# Altium schematic symbol library myComponents.SchLib: 51 symbols
Pins are listed as number, name and electrical type; pins without a type are passive.

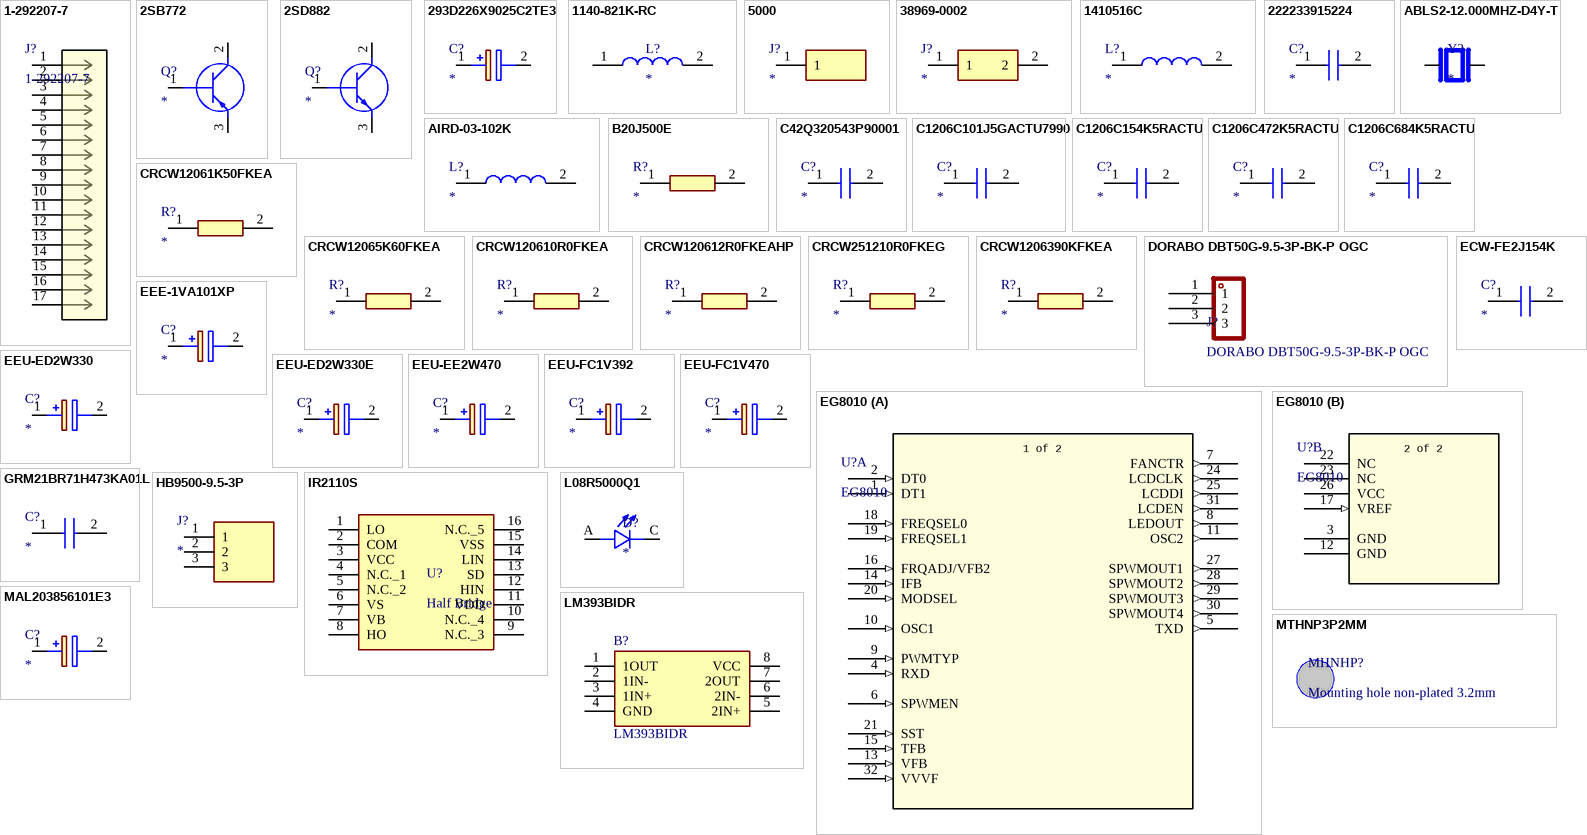
[diagram p0: symbols 1-292207-7 to MTHNP3P2MM]

## 1-292207-7
designator J?
MINI CT SGL DIP V 17P NAT; Manufacturer_Name: TE Connectivity; Copyright: Copyright (C) 2026 Ultra Librarian. All rights reserved.; Manufacturer_Part_Number: 1-292207-7; Datasheet: https://www.te.com/commerce/DocumentDelivery/DDEController?Action=srchrtrv&DocNm=108-60018-1&DocType=Specification+Or+Standard&DocLang=Japanese&PartCntxt=928037-2&DocFormat=pdf; RefDes: RefDes; Type: Type
pins: 1, 2, 3, 4, 5, 6, 7, 8, 9, 10, 11, 12, 13, 14, 15, 16, 17

## 2SB772
designator Q?
Transistor BJT PNP; Manufacturer_Name: STMicroelectronics; Manufacturer_Part_Number: 2SB772; Datasheet Link: https://datasheet.datasheetarchive.com/originals/distributors/Datasheets-45/DSA-5248.pdf; Height: 2.9mm; Mouser Part Number: 511-2SB772; Mouser Price/Stock: https://www.mouser.co.uk/ProductDetail/STMicroelectronics/2SB772?qs=7kmgJcyZw9d2sYv58XGrqg%3D%3D
footprint TO229P290X760X1320-3P
pins: 1 B, 2 C, 3 E

## 2SD882
designator Q?
Transistor BJT NPN; Manufacturer_Name: STMicroelectronics; Manufacturer_Part_Number: 2SD882; Datasheet Link: https://www.st.com/resource/en/datasheet/2sd882.pdf; Height: 2.9mm; Mouser Part Number: 511-2SD882; Mouser Price/Stock: https://www.mouser.co.uk/ProductDetail/STMicroelectronics/2SD882?qs=48xh8PjiJp54c%2F0PmkMjUQ%3D%3D; Arrow Part Number: 2SD882; Arrow Price/Stock: https://www.arrow.com/en/products/2sd882/stmicroelectronics?utm_currency=USD&region=nac
footprint BD235
pins: 1 B, 2 C, 3 E

## 293D226X9025C2TE3
designator C?
Capacitor Polarised; Manufacturer_Name: Vishay; Manufacturer_Part_Number: 293D226X9025C2TE3; Datasheet Link: http://www.vishay.com/docs/40002/293d.pdf; Height: 2.8mm; Mouser Part Number: 74-293D226X9025C2TE3; Mouser Price/Stock: https://www.mouser.co.uk/ProductDetail/Vishay-Sprague/293D226X9025C2TE3?qs=dG4nGvFc7P9WRSkI1DdLhQ%3D%3D; Arrow Part Number: 293D226X9025C2TE3; Arrow Price/Stock: https://www.arrow.com/en/products/293d226x9025c2te3/vishay?utm_currency=USD&region=nac
footprint CAPPM6032X280N
pins: 1 +, 2 -

## 1140-821K-RC
designator L?
Ind High Current RF Choke Bobbin Core 820uH 10% 1KHz Ferrite 7.2A RDL; Manufacturer: Bourns; Manufacturer Part Number: 1140-821K-RC; DC Resistance (DCR): 154mΩ; Value: 820µH; Lead/Base Style: Radial; Lead Diameter: 1.016mm; Lead Length: 12.7mm; Max Current Rating: 4.2A; Number of Circuits: 1; Shielding: Unshielded; Supplier: DigiKey; Supplier Part Number: M8381-ND; RoHS: Compliant; Category: Fixed Inductors; Stock: 126; Pricing: 1=14.05, 10=11.554, 25=10.6904, 70=9.79814, 140=9.24071, 280=8.71596, 560=8.4625 (USD); Body Material: Ferrite; Case/Package: Radial; Composition: Wirewound; Contact Plating: Tin; Core Material: Ferrite; DC Current: 7.2A; Diameter: 38.1mm; Height - Seated (Max): 26.162mm; Inductance Tolerance: 10%; Lead Free: Lead Free; Lead Pitch: 29.21mm; Length: 26.162mm; Lifecycle Status: Production; Max DC Current: 7.2A; Max Operating Temperature: 105°C; Military Standard: Not; Min Operating Temperature: -55°C; Mounting Technology: Through Hole; Pins: 2; Number of Terminals: 2; Packaging: Bulk; REACH SVHC: Yes; RMS Current (Irms): 7.2A; Saturation Current: 7.2A; Schedule B: 8504500000; Termination: Radial; Test Frequency: 1kHz; Tolerance: 10%; ComponentLink1URL: https://datasheet.octopart.com:443/1140-821K-RC-Bourns-datasheet-154729527.pdf?src-supplier=IHS; ComponentLink1Description: https://datasheet.octopart.com:443/1140-821K-RC-Bourns-datasheet-154729527.pdf?src-supplier=IHS; ComponentLink2URL: https://datasheet.octopart.com:443/1140-821K-RC-Bourns-datasheet-11630372.pdf?src-supplier=Newark; ComponentLink2Description: https://datasheet.octopart.com:443/1140-821K-RC-Bourns-datasheet-11630372.pdf?src-supplier=Newark; ComponentLink3URL: https://datasheet.octopart.com:443/1140-821K-RC-Bourns-datasheet-48858792.pdf?src-supplier=Newark; ComponentLink3Description: https://datasheet.octopart.com:443/1140-821K-RC-Bourns-datasheet-48858792.pdf?src-supplier=Newark; ComponentLink4URL: https://datasheet.octopart.com:443/1140-821K-RC-Bourns-datasheet-41175375.pdf?src-supplier=Newark; ComponentLink4Description: https://datasheet.octopart.com:443/1140-821K-RC-Bourns-datasheet-41175375.pdf?src-supplier=Newark; ComponentLink5URL: https://datasheet.octopart.com:443/1140-821K-RC-Bourns-datasheet-192317154.pdf?src-supplier=HQonline; ComponentLink5Description: https://datasheet.octopart.com:443/1140-821K-RC-Bourns-datasheet-192317154.pdf?src-supplier=HQonline; ComponentLink6URL: https://datasheet.octopart.com:443/1140-821K-RC-Bourns-datasheet-140.pdf?src-supplier=DigiKey; ComponentLink6Description: https://datasheet.octopart.com:443/1140-821K-RC-Bourns-datasheet-140.pdf?src-supplier=DigiKey; ComponentLink7URL: http://sigma.octopart.com:80/conflict_mineral_statement/Bourns-company-36.pdf?src-supplier=Compliance+Statements; ComponentLink7Description: http://sigma.octopart.com:80/conflict_mineral_statement/Bourns-company-36.pdf?src-supplier=Compliance+Statements
footprint 1140-821K-RC (4.2A 820uH ±10% 154mΩ 7.2A Through Hole,D38.1xL26.2mm Fixed Inductors RoHS)
pins: 1, 2

## 5000
designator J?
Connector; Manufacturer_Name: Keystone Electronics; Manufacturer_Part_Number: 5000; Datasheet Link: http://www.keyelco.com/product-pdf.cfm?p=1309; Mouser Part Number: 534-5000; Mouser Price/Stock: https://www.mouser.co.uk/ProductDetail/Keystone-Electronics/5000?qs=q0tsjPZWdm%252B9SiiTAbEwUw%3D%3D; Arrow Part Number: 5000; Arrow Price/Stock: https://www.arrow.com/en/products/5000/keystone-electronics.html?utm_currency=USD&region=europe
footprint 5000
pins: 1

## 38969-0002
designator J?
Connector; Manufacturer_Name: Molex; Manufacturer_Part_Number: 38969-0002; Datasheet Link: https://www.mouser.com/datasheet/2/276/0389690002_TERMINAL_BLOCKS-138581.pdf; Height: 21.9mm; Mouser Part Number: 538-38969-0002; Mouser Price/Stock: https://www.mouser.co.uk/ProductDetail/Molex/38969-0002?qs=%2Fs3Y63xoe9mbpbSgf7b48A%3D%3D
footprint 389690002
pins: 1, 2

## 1410516C
designator L?
Inductor; Manufacturer_Name: Murata Electronics; Manufacturer_Part_Number: 1410516C; Datasheet Link: https://search.murata.co.jp/Ceramy/image/img/P02A/kmp_1400.pdf; Height: 23.3mm; Mouser Part Number: 580-1410516C; Mouser Price/Stock: https://www.mouser.co.uk/ProductDetail/Murata-Power-Solutions/1410516C?qs=9r1NMR%2FmzSAtIf%252B56xzFaQ%3D%3D; Arrow Part Number: 1410516C; Arrow Price/Stock: https://www.arrow.com/en/products/1410516c/murata-power-solutions
footprint 1410516C
pins: 1, 2

## 222233915224
designator C?
Capacitor; Manufacturer_Name: Vishay; Manufacturer_Part_Number: 222233915224; Datasheet Link: https://www.vishay.com/docs/28138/mkp339x2.pdf; Height: 15.5mm; Mouser Part Number: N/A; Mouser Price/Stock: https://www.mouser.co.uk/ProductDetail/Vishay-BC-Components/222233915224?qs=vkgpMzy1B9Fp9IMdtZOLlw%3D%3D
footprint 222233915224
pins: 1, 2

## ABLS2-12.000MHZ-D4Y-T
designator Y?
HC/49US (AT49) LOW PROFILE SURFACE MOUNT MICROPROCESSOR CRYSTAL; MP: ABLS2-12.000MHZ-D4Y-T; MF: Abracon; Purchase-URL: https://pricing.snapeda.com/search/part/ABLS2-12.000MHZ-D4Y-T/?ref=eda; Package: HC49/US Abracon; Value: *; Price: None; Availability: In Stock; SnapEDA_Link: https://www.snapeda.com/parts/ABLS2-12.000MHZ-D4Y-T/Abracon+LLC/view-part/?ref=snap; Check_prices: https://www.snapeda.com/parts/ABLS2-12.000MHZ-D4Y-T/Abracon+LLC/view-part/?ref=eda
footprint XTAL_ABLS2-12.000MHZ-D4Y-T
pins: 1, 2

## AIRD-03-102K
designator L?
Inductor; Manufacturer_Name: ABRACON; Manufacturer_Part_Number: AIRD-03-102K; Datasheet Link: https://abracon.com/Magnetics/radial/AIRD03.pdf; Height: 21mm; Mouser Part Number: 815-AIRD-03-102K; Mouser Price/Stock: https://www.mouser.co.uk/ProductDetail/ABRACON/AIRD-03-102K?qs=qV1JnYL3zOzexeOxuHVt9w%3D%3D; Arrow Part Number: AIRD-03-102K; Arrow Price/Stock: https://www.arrow.com/en/products/aird-03-102k/abracon
footprint AIRD-03
pins: 1, 2

## B20J500E
designator R?
Resistor; Manufacturer_Name: Ohmite; Manufacturer_Part_Number: B20J500E; Datasheet Link: http://www.ohmite.com/assets/docs/res_200.pdf?r=false; Height: 11.11mm; Mouser Part Number: 588-B20J500E; Mouser Price/Stock: https://www.mouser.co.uk/ProductDetail/Ohmite/B20J500E/?qs=iXcfd2MmwnuWXsM68hCYqw%3D%3D
footprint B20J500E
pins: 1, 2

## C42Q320543P90001
designator C?
2uF ±10% 275V 310V Safety Capacitor X2 Through Hole,P=22.5mm; Manufacturer_Name: WALSON; Manufacturer_Part_Number: C42Q320543P90001; Datasheet Link: -; Height: 20m; LCSC part no: C46638887; Mouser Price/Stock: https://www.mouser.co.uk/ProductDetail/Vishay-BC-Components/222233915224?qs=vkgpMzy1B9Fp9IMdtZOLlw%3D%3D
footprint C42Q320543P90001
pins: 1, 2

## C1206C101J5GACTU7990
designator C?
Capacitor; Manufacturer_Name: Yageo Group; Manufacturer_Part_Number: C1206C101J5GACTU7990; Datasheet Link: https://www.kemet.com/specsheet/C1206C101J5GACTU; Height: 0.88mm; Arrow Part Number: C1206C101J5GACTU7990; Arrow Price/Stock: https://www.arrow.com/en/products/c1206c101j5gactu7990/kemet-corporation
footprint CAPC3216X88N
pins: 1, 2

## C1206C154K5RACTU
designator C?
Capacitor; Manufacturer_Name: Yageo Group; Manufacturer_Part_Number: C1206C154K5RACTU; Datasheet Link: https://www.yageogroup.com/content/datasheet/asset/file/KEM_C1002_X7R_SMD; Mouser Part Number: 80-C1206C154K5R; Mouser Price/Stock: https://www.mouser.com/Search/Refine.aspx?Keyword=80-C1206C154K5R
footprint C1206
pins: 1, 2

## C1206C472K5RACTU
designator C?
Capacitor; Manufacturer_Name: Yageo Group; Manufacturer_Part_Number: C1206C472K5RACTU; Datasheet Link: https://www.yageogroup.com/content/datasheet/asset/file/KEM_C1002_X7R_SMD; Mouser Part Number: 80-C1206C472K5R; Mouser Price/Stock: https://www.mouser.co.uk/ProductDetail/KEMET/C1206C472K5RACTU?qs=mFbQsTr%2Fh7%2F0OG5diKY6aA%3D%3D; Arrow Part Number: C1206C472K5RACTU; Arrow Price/Stock: https://www.arrow.com/en/products/c1206c472k5ractu/kemet-corporation?utm_currency=USD&region=nac
footprint C1206
pins: 1, 2

## C1206C684K5RACTU
designator C?
Capacitor; Manufacturer_Name: Yageo Group; Manufacturer_Part_Number: C1206C684K5RACTU; Datasheet Link: https://www.yageogroup.com/content/datasheet/asset/file/KEM_C1002_X7R_SMD; Mouser Part Number: 80-C1206C684K5R; Mouser Price/Stock: https://www.mouser.co.uk/ProductDetail/KEMET/C1206C684K5RACTU?qs=KSy8a%252BTKc2qru3MXWlYRyw%3D%3D; Arrow Part Number: C1206C684K5RACTU; Arrow Price/Stock: https://www.arrow.com/en/products/c1206c684k5ractu/kemet-corporation
footprint C1206
pins: 1, 2

## CRCW12061K50FKEA
designator R?
Resistor; Manufacturer_Name: Vishay; Manufacturer_Part_Number: CRCW12061K50FKEA; Datasheet Link: http://www.vishay.com/docs/20035/dcrcwe3.pdf; Height: 0.6mm; Mouser Part Number: 71-CRCW1206-1.5K-E3; Mouser Price/Stock: https://www.mouser.co.uk/ProductDetail/Vishay-Dale/CRCW12061K50FKEA?qs=3XLFQ9LoC1zlBocU3%2FWpng%3D%3D; Arrow Part Number: CRCW12061K50FKEA; Arrow Price/Stock: https://www.arrow.com/en/products/crcw12061k50fkea/vishay?region=nac
footprint RESC3216X60N
pins: 1, 2

## CRCW12065K60FKEA
designator R?
Resistor; Manufacturer_Name: Vishay; Manufacturer_Part_Number: CRCW12065K60FKEA; Datasheet Link: http://www.vishay.com/docs/20035/dcrcwe3.pdf; Height: 0.6mm; Mouser Part Number: 71-CRCW1206-5.6K-E3; Mouser Price/Stock: https://www.mouser.co.uk/ProductDetail/Vishay-Dale/CRCW12065K60FKEA?qs=DAOw7tDt2pG1e3ABjnqiFQ%3D%3D; Arrow Part Number: CRCW12065K60FKEA; Arrow Price/Stock: https://www.arrow.com/en/products/crcw12065k60fkea/vishay?utm_currency=USD&region=europe
footprint RESC3216X60N
pins: 1, 2

## CRCW120610R0FKEA
designator R?
Resistor; Manufacturer_Name: Vishay; Manufacturer_Part_Number: CRCW120610R0FKEA; Datasheet Link: http://www.vishay.com/docs/20035/dcrcwe3.pdf; Height: 0.6mm; Mouser Part Number: 71-CRCW1206-10-E3; Mouser Price/Stock: https://www.mouser.co.uk/ProductDetail/Vishay-Dale/CRCW120610R0FKEA?qs=ODaLBy2SlZEomzAFMQRuoA%3D%3D; Arrow Part Number: CRCW120610R0FKEA; Arrow Price/Stock: https://www.arrow.com/en/products/crcw120610r0fkea/vishay?utm_currency=USD&region=nac
footprint RESC3216X60N
pins: 1, 2

## CRCW120612R0FKEAHP
designator R?
Resistor; Manufacturer_Name: Vishay; Manufacturer_Part_Number: CRCW120612R0FKEAHP; Datasheet Link: http://www.vishay.com/docs/20035/dcrcwe3.pdf; Height: 0.65mm; Mouser Part Number: 71-CRCW120612R0FKEAH; Mouser Price/Stock: https://www.mouser.co.uk/ProductDetail/Vishay-Dale/CRCW120612R0FKEAHP?qs=40TFAHZMFvfoWh3r5QltXA%3D%3D; Arrow Part Number: CRCW120612R0FKEAHP; Arrow Price/Stock: https://www.arrow.com/en/products/crcw120612r0fkeahp/vishay?region=nac
footprint RESC3116X65N
pins: 1, 2

## CRCW251210R0FKEG
designator R?
Resistor; Manufacturer_Name: Vishay; Manufacturer_Part_Number: CRCW251210R0FKEG; Datasheet Link: http://www.vishay.com/docs/20035/dcrcwe3.pdf; Height: 0.7mm; Mouser Part Number: 71-CRCW2512-10-E3; Mouser Price/Stock: https://www.mouser.co.uk/ProductDetail/Vishay-Dale/CRCW251210R0FKEG?qs=VTHkDwr%2FZpkb635FFTvRPg%3D%3D; Arrow Part Number: CRCW251210R0FKEG; Arrow Price/Stock: https://www.arrow.com/en/products/crcw251210r0fkeg/vishay?utm_currency=USD&region=nac
footprint RESC6332X70N
pins: 1, 2

## CRCW1206390KFKEA
designator R?
Resistor; Manufacturer_Name: Vishay; Manufacturer_Part_Number: CRCW1206390KFKEA; Datasheet Link: http://www.vishay.com/docs/20035/dcrcwe3.pdf; Height: 0.6mm; Mouser Part Number: 71-CRCW1206-390K-E3; Mouser Price/Stock: https://www.mouser.co.uk/ProductDetail/Vishay-Dale/CRCW1206390KFKEA?qs=v0cjL%2FPx3nzEevIf9clm%2Fw%3D%3D
footprint RESC3216X60N
pins: 1, 2

## DORABO DBT50G-9.5-3P-BK-P OGC
designator J?
3 Position Barrier Block Connector 12~22 AWG 750V 32A Through Hole,P=9.5mm; Mfr. Part #: DBT50G-9.5-3P-BK-P OGC; LCSC Part #: C395959
footprint DORABO DBT50G-9.5-3P-BK-P OGC
pins: 1, 2, 3

## ECW-FE2J154K
designator C?
Capacitor; Manufacturer_Name: Panasonic; Manufacturer_Part_Number: ECW-FE2J154K; Datasheet Link: https://www.mouser.ch/datasheet/2/315/panasonic_06262019_Capacitor_Film_Leaded_(ECW-F(E)-1609057.pdf; Height: 12mm
footprint ECWFE2J154K
pins: 1, 2

## EEE-1VA101XP
designator C?
Capacitor Polarised; Manufacturer_Name: Panasonic; Manufacturer_Part_Number: EEE-1VA101XP; Datasheet Link: http://industrial.panasonic.com/cdbs/www-data/pdf/RDE0000/ABA0000C1145.pdf; Height: 7.8mm; Mouser Part Number: 667-EEE-1VA101XP; Mouser Price/Stock: https://www.mouser.co.uk/ProductDetail/Panasonic/EEE-1VA101XP?qs=wEytwf7f49FM0EqQXrBRGQ%3D%3D; Arrow Part Number: EEE-1VA101XP; Arrow Price/Stock: https://www.arrow.com/en/products/eee-1va101xp/panasonic?region=europe
footprint EEE0JA331XP
pins: 1 +, 2 -

## EEU-ED2W330
designator C?
Capacitor Polarised; Manufacturer_Name: Panasonic; Manufacturer_Part_Number: EEU-ED2W330; Datasheet Link: http://industrial.panasonic.com/cdbs/www-data/pdf/RDF0000/ABA0000C1258.pdf; Height: 33.5mm; Mouser Part Number: 667-EEU-ED2W330; Mouser Price/Stock: https://www.mouser.co.uk/ProductDetail/Panasonic/EEU-ED2W330?qs=MtOUKumLmnY5%2Fm%252B1L0U2bw%3D%3D; Arrow Part Number: EEU-ED2W330; Arrow Price/Stock: https://www.arrow.com/en/products/eeu-ed2w330/panasonic
footprint CAPPRD750W85D1600H3350
pins: 1 +, 2 -

## EEU-ED2W330E
designator C?
Capacitor Polarised; Manufacturer_Name: Panasonic; Manufacturer_Part_Number: EEU-ED2W330E; Datasheet Link: http://industrial.panasonic.com/cdbs/www-data/pdf/RDF0000/ABA0000C1258.pdf; Height: 33.5mm
footprint CAPPRD750W85D1600H3350
pins: 1 +, 2 -

## EEU-EE2W470
designator C?
Capacitor Polarised; Manufacturer_Name: Panasonic; Manufacturer_Part_Number: EEU-EE2W470; Datasheet Link: http://industrial.panasonic.com/cdbs/www-data/pdf/RDF0000/ABA0000C1026.pdf; Height: 33.5mm; Mouser Part Number: 667-EEU-EE2W470; Mouser Price/Stock: https://www.mouser.co.uk/ProductDetail/Panasonic/EEU-EE2W470?qs=bZLtalHQkT029IEIu1uw8w%3D%3D; Arrow Part Number: EEU-EE2W470; Arrow Price/Stock: https://www.arrow.com/en/products/eeu-ee2w470/panasonic?region=europe
footprint CAPPRD750W85D1600H3350
pins: 1 +, 2 -

## EEU-FC1V392
designator C?
Capacitor Polarised; Manufacturer_Name: Panasonic; Manufacturer_Part_Number: EEU-FC1V392; Datasheet Link: http://industrial.panasonic.com/cdbs/www-data/pdf/RDF0000/ABA0000C1209.pdf; Height: 42mm; Mouser Part Number: 667-EEU-FC1V392; Mouser Price/Stock: https://www.mouser.com/Search/Refine.aspx?Keyword=667-EEU-FC1V392; Arrow Part Number: EEU-FC1V392; Arrow Price/Stock: https://www.arrow.com/en/products/eeu-fc1v392/panasonic
footprint CAPPRD750W85D1800H4200
pins: 1 +, 2 -

## EEU-FC1V470
designator C?
Capacitor Polarised; Manufacturer_Name: Panasonic; Manufacturer_Part_Number: EEU-FC1V470; Datasheet Link: http://industrial.panasonic.com/cdbs/www-data/pdf/RDF0000/ABA0000C1209.pdf; Height: 12.2mm; Mouser Part Number: 667-EEU-FC1V470; Mouser Price/Stock: https://www.mouser.co.uk/ProductDetail/Panasonic/EEU-FC1V470?qs=LcHzz5wiUnXQHudKE6FiUA%3D%3D; Arrow Part Number: EEU-FC1V470; Arrow Price/Stock: https://www.arrow.com/en/products/eeu-fc1v470/panasonic?region=nac
footprint CAPPRD250W55D655H1220
pins: 1 +, 2 -

## EG8010
designator U?
Description; Manufacturer_Name: EG; Copyright: Copyright (C) 2026 Ultra Librarian. All rights reserved.; Manufacturer_Part_Number: EG8010; RefDes: RefDes; Type: Type
footprint EG8010
part A pins: 1 DT1 (in), 2 DT0 (in), 4 RXD (in), 5 TXD (out), 6 SPWMEN (in), 7 FANCTR (out), 8 LEDOUT (out), 9 PWMTYP (in), 10 OSC1 (in), 11 OSC2 (out), 13 VFB (in), 14 IFB (in), 15 TFB (in), 16 FRQADJ/VFB2 (in), 18 FREQSEL0 (in), 19 FREQSEL1 (in), 20 MODSEL (in), 21 SST (in), 24 LCDCLK (out), 25 LCDDI (out), 27 SPWMOUT1 (out), 28 SPWMOUT2 (out), 29 SPWMOUT3 (out), 30 SPWMOUT4 (out), 31 LCDEN (out), 32 VVVF (in)
part B pins: 3 GND (power), 12 GND (power), 17 VREF (in), 22 NC, 23 NC, 26 VCC (power)
part A text: 1 of 2
part B text: 2 of 2

## GRM21BR71H473KA01L
designator C?
Capacitor; Manufacturer_Name: Murata Electronics; Manufacturer_Part_Number: GRM21BR71H473KA01L; Datasheet Link: https://search.murata.co.jp/Ceramy/image/img/A01X/G101/ENG/GRM21BR71H473KA01-01.pdf; Height: 1.45mm; Mouser Part Number: 81-GRM40X473K50L; Mouser Price/Stock: https://www.mouser.co.uk/ProductDetail/Murata-Electronics/GRM21BR71H473KA01L?qs=sMEX%2F0vXHgl0Nq00%252BwNcXQ%3D%3D; Arrow Part Number: GRM21BR71H473KA01L; Arrow Price/Stock: https://www.arrow.com/en/products/grm21br71h473ka01l/murata-manufacturing?region=europe
footprint CAPC2012X145N
pins: 1, 2

## HB9500-9.5-3P
designator J?
Connector; Manufacturer_Name: Ningbo Kangnex; Manufacturer_Part_Number: HB9500-9.5-3P; Datasheet Link: https://datasheet.lcsc.com/lcsc/2303311830_Cixi-Kefa-Elec-HB9500SS-9-5-3P_C707846.pdf; Height: 14.9mm
footprint HB9500953P
pins: 1, 2, 3

## IR2110S
designator U?, comment Half Bridge
footprint IR2110S
pins: 1 LO, 2 COM, 3 VCC, 4 N.C._1, 5 N.C._2, 6 VS, 7 VB, 8 HO, 9 N.C._3, 10 N.C._4, 11 VDD, 12 HIN, 13 SD, 14 LIN, 15 VSS, 16 N.C._5

## L08R5000Q1
designator D?
LED, 5MM, ORANGE; LED / Lamp Size: 5mm / T-1 3/4; LED Colour: Orange; Typ Luminous Intensity: 4.3mcd; Viewing Angle: ...; MP: L08R5000Q1; MF: LED Technology; Value: *; SnapEDA_Link: https://www.snapeda.com/parts/L08R5000Q1/LED+Technology/view-part/?ref=snap; Check_prices: https://www.snapeda.com/parts/L08R5000Q1/LED+Technology/view-part/?ref=eda; Availability: In Stock; Price: None; Package: None
footprint LEDRD254W57D500H1070
pins: A, C

## LM393BIDR
designator B?
Analog Comparators Dual standard comparator 8-SOIC -40 to 85; Manufacturer_Name: Texas Instruments; Geometry.Height: 1.75mm; Manufacturer_Part_Number: LM393BIDR; Mouser Part Number: 595-LM393BIDR; Mouser Price/Stock: https://www.mouser.co.uk/ProductDetail/Texas-Instruments/LM393BIDR?qs=BJlw7L4Cy78N8CV%252BGpRosA%3D%3D; Arrow Part Number: LM393BIDR; Arrow Price/Stock: https://www.arrow.com/en/products/lm393bidr/texas-instruments?utm_currency=USD&region=nac; Datasheet Link: https://www.ti.com/lit/gpn/LM393B
footprint SOIC127P600X175-8N
pins: 1 1OUT, 2 1IN-, 3 1IN+, 4 GND, 5 2IN+, 6 2IN-, 7 2OUT, 8 VCC

## MAL203856101E3
designator C?
Capacitor Polarised; Manufacturer_Name: Vishay; Manufacturer_Part_Number: MAL203856101E3; Datasheet Link: https://componentsearchengine.com/Datasheets/2/MAL203856101E3.pdf; Height: 12.5mm; Mouser Part Number: 594-MAL203856101E3; Mouser Price/Stock: https://www.mouser.co.uk/ProductDetail/Vishay-BC-Components/MAL203856101E3?qs=G99oyVYclWUG3wiHKtPKfA%3D%3D; Arrow Part Number: MAL203856101E3; Arrow Price/Stock: https://www.arrow.com/en/products/mal203856101e3/vishay
footprint CAPPRD250W50D680H1250
pins: 1 +, 2 -

## MTHNP3P2MM
designator MHNHP?, comment Mounting hole non-plated 3.2mm
Mounting hole non-plated 3.2mm through hole drill
footprint MTHNP3P2MM (mountinh hole non plated 3.2mm)

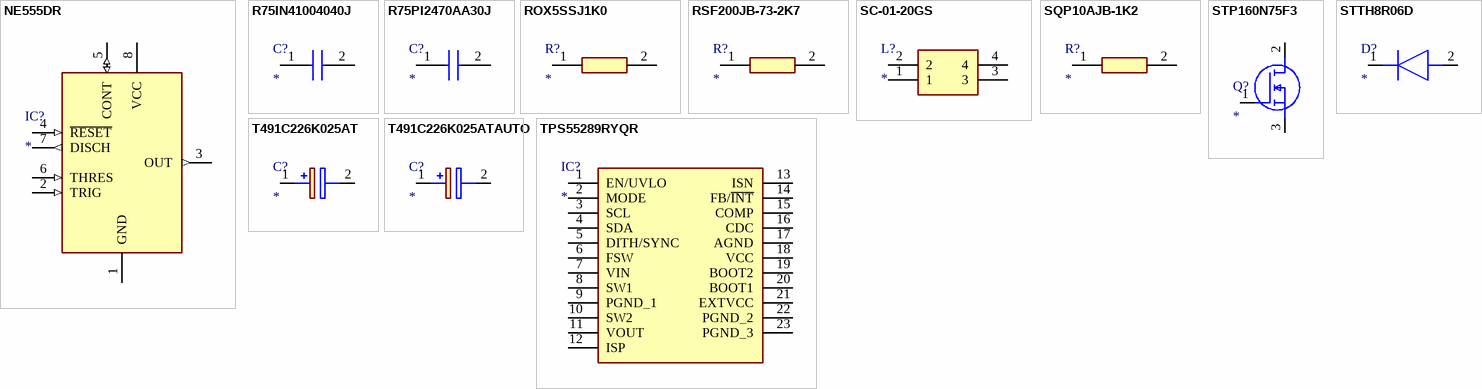
[diagram p1: symbols NE555DR to TPS55289RYQR]

## NE555DR
designator IC?
Integrated Circuit; Manufacturer_Name: Texas Instruments; Manufacturer_Part_Number: NE555DR; Datasheet Link: http://www.ti.com/lit/ds/symlink/ne555.pdf; Height: 1.75mm; Mouser Part Number: 595-NE555DR; Mouser Price/Stock: https://www.mouser.com/Search/Refine.aspx?Keyword=595-NE555DR; RS Part Number: 1218414; RS Price/Stock: http://uk.rs-online.com/web/p/products/1218414
footprint SOIC127P600X175-8N
pins: 1 GND (power), 2 TRIG (in), 3 OUT (out), 4 ~{RESET} (in), 5 CONT (io), 6 THRES (in), 7 DISCH (out), 8 VCC (power)

## R75IN41004040J
designator C?
Capacitor; Manufacturer_Name: Yageo Group; Manufacturer_Part_Number: R75IN41004040J; Datasheet Link: https://www.yageogroup.com/content/datasheet/asset/file/KEM_F3106_R75; Height: 16mm; Mouser Part Number: 80-R75IN41004040J; Mouser Price/Stock: https://www.mouser.co.uk/ProductDetail/KEMET/R75IN41004040J?qs=pfd5qewlna63QSQqVCHX%2Fw%3D%3D
footprint R75IN41004040J
pins: 1, 2

## R75PI2470AA30J
designator C?
Capacitor; Manufacturer_Name: Yageo Group; Manufacturer_Part_Number: R75PI2470AA30J; Datasheet Link: https://www.yageogroup.com/content/datasheet/asset/file/KEM_F3106_R75; Height: 11.1mm; Mouser Part Number: 80-R75PI2470AA30J; Mouser Price/Stock: https://www.mouser.co.uk/ProductDetail/KEMET/R75PI2470AA30J?qs=Jv4FAWB%252B0HY3fd5LoGN6fA%3D%3D
footprint R75PI2470AA30J
pins: 1, 2

## ROX5SSJ1K0
designator R?
Resistor; Manufacturer_Name: TE Connectivity; Manufacturer_Part_Number: ROX5SSJ1K0; Datasheet Link: https://www.te.com/commerce/DocumentDelivery/DDEController?Action=srchrtrv&DocNm=1773271&DocType=Data%20Sheet&DocLang=English&PartCntxt=5-2176412-6&DocFormat=pdf; Mouser Part Number: 279-ROX5SSJ1K0; Mouser Price/Stock: https://www.mouser.co.uk/ProductDetail/TE-Connectivity-Holsworthy/ROX5SSJ1K0?qs=gZXFycFWdAPX%252B%2FDjXXJq7Q%3D%3D
footprint RESAD4350W80L1750D650
pins: 1, 2

## RSF200JB-73-2K7
designator R?
Resistor; Manufacturer_Name: Yageo Group; Manufacturer_Part_Number: RSF200JB-73-2K7; Datasheet Link: https://www.mouser.com/datasheet/2/447/Yageo LR_RSF_2013-594715.pdf; Mouser Part Number: 603-RSF200JB-73-2K7; Mouser Price/Stock: https://www.mouser.co.uk/ProductDetail/Yageo/RSF200JB-73-2K7?qs=oypCK0zG325UUA6ZRCnT5g%3D%3D; Arrow Part Number: RSF200JB-73-2K7; Arrow Price/Stock: https://www.arrow.com/en/products/rsf200jb-73-2k7/yageo?utm_currency=USD&region=nac
footprint RESAD3550W85L1550D500
pins: 1, 2

## SC-01-20GS
designator L?
Inductor; Manufacturer_Name: Yageo Group; Manufacturer_Part_Number: SC-01-20GS; Datasheet Link: https://www.yageogroup.com/content/datasheet/asset/file/KEM_LF0011_SC-G-GS; Height: 15mm; Mouser Part Number: 80-SC-01-20GS; Mouser Price/Stock: https://www.mouser.co.uk/ProductDetail/KEMET/SC-01-20GS?qs=BenOyfdfArpUM2twEpwYoA%3D%3D
footprint SC0120GS
pins: 1, 2, 3, 4

## SQP10AJB-1K2
designator R?
Resistor; Manufacturer_Name: Yageo Group; Manufacturer_Part_Number: SQP10AJB-1K2; Datasheet Link: https://datasheet.datasheetarchive.com/originals/distributors/Datasheets_SAMA/93bf563c2b531d562506a92f6e9f509a.pdf; Height: 10mm; Mouser Part Number: 603-SQP10AJB-1K2; Mouser Price/Stock: https://www.mouser.co.uk/ProductDetail/YAGEO/SQP10AJB-1K2?qs=KUIzHt%2Fe91lQt12IWbZ47A%3D%3D
footprint SQP10AJB100R
pins: 1, 2

## STP160N75F3
designator Q?
MOSFET (N-Channel); Manufacturer_Name: STMicroelectronics; Manufacturer_Part_Number: STP160N75F3; Datasheet Link: http://www.st.com/web/en/resource/technical/document/datasheet/CD00151535.pdf; Height: 4.6mm; Mouser Part Number: 511-STP160N75F3; Mouser Price/Stock: https://www.mouser.co.uk/ProductDetail/STMicroelectronics/STP160N75F3?qs=qolwYojYp3Rr6HIc187Twg%3D%3D; Arrow Part Number: STP160N75F3; Arrow Price/Stock: https://www.arrow.com/en/products/stp160n75f3/stmicroelectronics
footprint TO255P460X1020X2008-3P
pins: 1 G, 2 D, 3 S

## STTH8R06D
designator D?
Diode; Manufacturer_Name: STMicroelectronics; Manufacturer_Part_Number: STTH8R06D; Datasheet Link: https://www.st.com/resource/en/datasheet/stth8r06.pdf; Height: 4.6mm; Mouser Part Number: 511-STTH8R06D; Mouser Price/Stock: https://www.mouser.co.uk/ProductDetail/STMicroelectronics/STTH8R06D?qs=sMZUW2WomJIxbhGLcMmR9Q%3D%3D; Arrow Part Number: STTH8R06D; Arrow Price/Stock: https://www.arrow.com/en/products/stth8r06d/stmicroelectronics?utm_currency=USD&region=europe
footprint TO510P460X1020X2005-2P
pins: 1 K, 2 A

## T491C226K025AT
designator C?
Capacitor Polarised; Manufacturer_Name: Yageo Group; Manufacturer_Part_Number: T491C226K025AT; Datasheet Link: https://www.yageogroup.com/content/datasheet/asset/file/KEM_T2005_T491; Height: 2.8mm; Mouser Part Number: 80-T491C226K025; Mouser Price/Stock: https://www.mouser.co.uk/ProductDetail/KEMET/T491C226K025AT?qs=DM5%252B9G31yH2Lc8qb%2FtnWTw%3D%3D; Arrow Part Number: T491C226K025AT; Arrow Price/Stock: https://www.arrow.com/en/products/t491c226k025at/kemet-corporation?region=nac
footprint T491C
pins: 1 +, 2 -

## T491C226K025ATAUTO
designator C?
Capacitor Polarised; Manufacturer_Name: Yageo Group; Manufacturer_Part_Number: T491C226K025ATAUTO; Datasheet Link: https://www.yageogroup.com/content/datasheet/asset/file/KEM_T2050_T491_AUTO; Height: 2.8mm; Mouser Part Number: 80-T491C226K25ATAUTO; Mouser Price/Stock: https://www.mouser.co.uk/ProductDetail/KEMET/T491C226K025ATAUTO?qs=2FIyTMJ0hNn77cTgvgz1DQ%3D%3D; Arrow Part Number: T491C226K025ATAUTO; Arrow Price/Stock: https://www.arrow.com/en/products/t491c226k025atauto/kemet-corporation
footprint T491C
pins: 1 +, 2 -

## TPS55289RYQR
designator IC?
Integrated Circuit; Manufacturer_Name: Texas Instruments; Manufacturer_Part_Number: TPS55289RYQR; Datasheet Link: https://www.ti.com/lit/ds/symlink/tps55289.pdf?ts=1664818706180&ref_url=https%253A%252F%252Fwww.ti.com%252Fproduct%252FTPS55289%252Fpart-details%252FTPS55289RYQR%253FkeyMatch%253DTPS55289RYQR; Height: 1mm; Mouser Part Number: 595-TPS55289RYQR; Mouser Price/Stock: https://www.mouser.co.uk/ProductDetail/Texas-Instruments/TPS55289RYQR?qs=T%252BzbugeAwjhgaIN94Lbpjg%3D%3D; Arrow Part Number: TPS55289RYQR; Arrow Price/Stock: https://www.arrow.com/en/products/tps55289ryqr/texas-instruments.html?utm_currency=USD&region=nac
footprint TPS55289RYQR
pins: 1 EN/UVLO, 2 MODE, 3 SCL, 4 SDA, 5 DITH/SYNC, 6 FSW, 7 VIN, 8 SW1, 9 PGND_1, 10 SW2, 11 VOUT, 12 ISP, 13 ISN, 14 FB/~{INT}, 15 COMP, 16 CDC, 17 AGND, 18 VCC, 19 BOOT2, 20 BOOT1, 21 EXTVCC, 22 PGND_2, 23 PGND_3